# EAGLE library part 8X1_SMD_HEADER (library connectors)
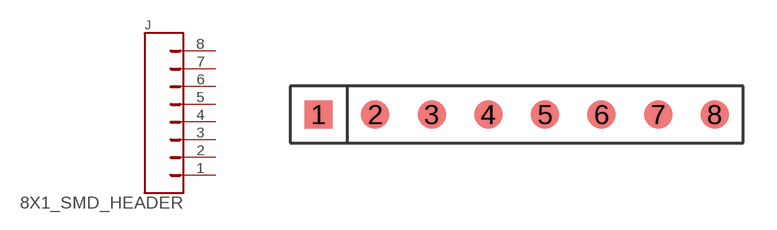
[diagram p1: symbol with the pads of 8X1_SMD; footprint 8X1_SMD]

Designator prefix J

## 8X1_SMD_HEADER  [8X1_SMD]
1  1
2  2
3  3
4  4
5  5
6  6
7  7
8  8

## Footprint 8X1_SMD (pad centres in mm)
smd 1.27 x 1.27: 1 0,0; 2 2.54,0; 3 5.08,0; 4 7.62,0; 5 10.16,0; 6 12.7,0; 7 15.24,0; 8 17.78,0